# Altium schematic symbol library TPS7A8101DRBT.SchLib: 1 symbol
Pins are listed as number, name and electrical type; pins without a type are passive.

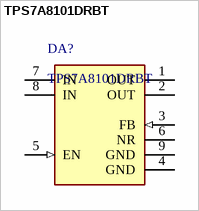
[diagram p0: symbol TPS7A8101DRBT]

## TPS7A8101DRBT
designator DA?
Single Output LDO, 1 A, Adjustable 0.8 to 6 V Output, 2.2 to 6.5 V Input, with High-Bandwidth PSRR, 8-pin SON (DRB), -40 to 125 degC, Green (RoHS & no Sb/Br); Manufacturer: Texas Instruments; Vout Adj(Min)(V): 0.8; SubFamily: Single Channel LDO; Vdo(Typ)(mV): 170; Vin(Min)(V): 2.2; Vout Adj(Max)(V): 6; Vin(Max)(V): 6.5; Accuracy(%): 3; Iout(Max)(A): 1; Iq(Typ)(mA): 0.04; ComponentLink1Description: Manufacturer URL; ComponentLink2URL: http://www.ti.com/general/docs/lit/getliterature.tsp?genericPartNumber=TPS7A8101&fileType=pdf; ComponentLink3Description: Package Specification; ComponentLink1URL: http://www.ti.com/; ComponentLink3URL: http://www.ti.com/litv/pdf/mpds118h; Mounting Technology: Surface Mount; Eco-Plan: Green (RoHS & no Sb/Br); PackageVersion: 4203482-2/K; PartNumber: TPS7A8101DRBT; DatasheetVersion: SBVS179A; PackageDescription: 8-Pin Plastic Small Outline, Body 3 x 3 mm, Pitch 0.65 mm; ComponentLink2Description: Datasheet; PackageReference: DRB0008A
footprint DRB0008A_V (SON, 8-Leads, Body 3x3mm, Pitch 0.65mm, Thermal Pad 1.50 x 3.8mm)
pins: 1 OUT (power) "Regulator output. A 4.7 uF or larger capacitor of any type is required for stability.", 2 OUT (power) "Regulator output. A 4.7 uF or larger capacitor of any type is required for stability.", 3 FB (in) "Adjustable voltage version only. This pin is the input to the control loop error amplifier and is used to set the output voltage of the device.", 4 GND (power) "Ground.", 5 EN (in) "Driving the enable pin (EN) high turns on the regulator. Driving this pin low puts the regulator into shutdown mode. Refer to Shutdown in the Application Information section for more details. EN must not be left floating and (See Datasheet)", 6 NR "Connect an external capacitor between this pin and ground to reduce output noise to very low levels. Also, the capacitor slows down the VOUT ramp (RC softstart).", 7 IN (power) "Unregulated input supply.", 8 IN (power) "Unregulated input supply.", 9 GND (power) "Ground."